# Altium schematic symbol library Switches.SchLib: 10 symbols
Pins are listed as number, name and electrical type; pins without a type are passive.

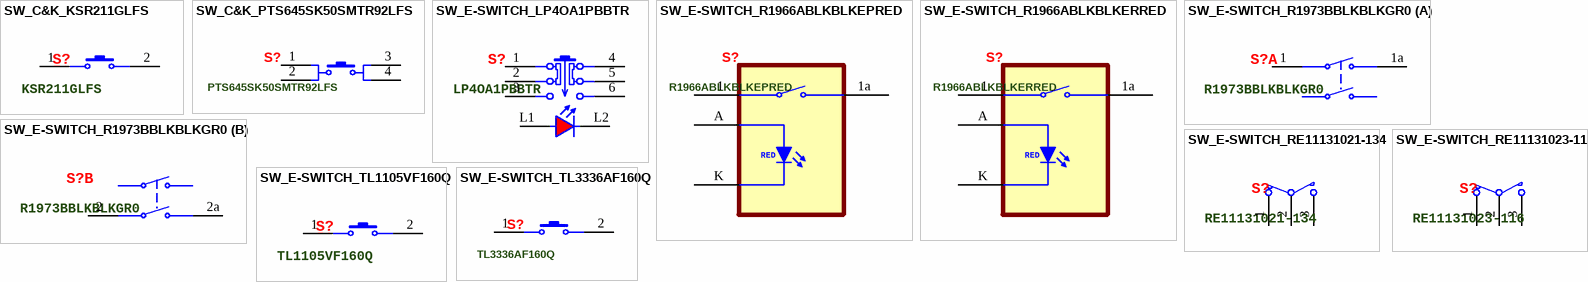
[diagram p0: symbols SW_C&K_KSR211GLFS to SW_E-SWITCH_TL3336AF160Q]

## SW_C&K_KSR211GLFS
designator S?, comment KSR211GLFS
Tactile Switch SPST-NO Top Actuated Surface Mount; Manufacturer: ITT C&K; Mechanical Life: 100000Cycles; Operating Force: 180gf; Throw Configuration: SPST; Voltage Rating (DC): 32V; Current Rating: 50mA; Illumination Type: Non-Illuminated; Switch Travel: 0.25mm; Switch Function: Off-Mom; Actuator Type: Standard; Actuator Length: 0.75mm; Manufacturer Part Number: KSR211GLFS; Category: Tactile Switches; Mounting Type: Surface Mount; Min Operating Temperature: -40°C; Max Operating Temperature: 85°C; Termination: Gull Wing; Orientation: Straight; RoHS Compliant: Yes; ComponentLink1Description: Datasheet; ComponentLink1URL: https://www.ckswitches.com/media/1466/ksr.pdf; Supplier 1: Digi-Key; Supplier Part Number 1: 401-1702-1-ND; Supplier 2: Mouser; Supplier Part Number 2: 611-KSR211GLFS; Actuator Orientation: Top
footprint C&K_KSR2xxGLF (Tactile Switch SPST-NO Top Actuated Surface Mount)
simulation model SPST_Switch (Model Description)
pins: 1, 2

## SW_C&K_PTS645SK50SMTR92LFS
designator S?, comment PTS645SK50SMTR92LFS
Tactile Switch SPST-NO Top Actuated Surface Mount; Manufacturer: ITT C&K; Mechanical Life: 100000Cycles; Operating Force: 260gf; Throw Configuration: SPST; Current Rating: 50mA; Voltage Rating (DC): 12V; Illumination Type: Non-Illuminated; Switch Function: Off-Mom; Actuator Type: Standard; Actuator Length: 1.55mm; Manufacturer Part Number: PTS645SK50SMTR92LFS; Category: Tactile Switches; Color: Red; Min Operating Temperature: -20°C; Max Operating Temperature: 60°C; Termination: Gull Wing; Orientation: Straight; RoHS Compliant: Yes; ComponentLink1Description: Datasheet; ComponentLink1URL: https://www.ckswitches.com/media/1471/pts645.pdf; Supplier 1: Digi-Key; Supplier Part Number 1: CKN9087CT-ND; Supplier 2: Mouser; Supplier Part Number 2: 611-PTS645SK50SMTR92; Mounting Type: Surface Mount; Actuator Orientation: Top
footprint C&K_PTS645SK50SMTR92LFS (Tactile Switch SPST-NO Top Actuated Surface Mount)
simulation model SPST_Switch (Model Description)
pins: 1, 2, 3, 4

## SW_E-SWITCH_LP4OA1PBBTR
designator S?, comment LP4OA1PBBTR
Pushbutton Switch DPDT Standard, Illuminated Through Hole; Manufacturer: E-Switch; Mechanical Life: 50000Cycles; Current Rating: 100mA; Illumination Color: Red; Voltage Rating (DC): 30V; Illumination Type: LED,Illuminated; Switch Function: On-Mom; Actuator Type: Round, Button; Actuator Length: 1.9mm; Actuator Orientation: Top; Operating Force: 260gf; Manufacturer Part Number: LP4OA1PBBTR; Category: Pushbutton Switches; Min Operating Temperature: -20°C; Max Operating Temperature: 70°C; Throw Configuration: DPDT; Termination: PC Pin; Orientation: Straight; RoHS Compliant: Yes; ComponentLink1URL: https://www.digikey.com/htmldatasheets/production/736035/0/0/1/lp4oa1pbbtr-drawing.pdf; ComponentLink1Description: Datasheet; Mounting Type: Through Hole; Supplier 1: Digi-Key; Supplier 2: Mouser; Supplier Part Number 1: EG4645-ND; Supplier Part Number 2: 612-LP4OA1PBBTR
footprint E-SWITCH_LP4OA1PBBTR (E-Switch LP4OA1PBBTR)
simulation model DPDT_Switch (Model Description)
simulation model WURTH_150060RS75000 (Model Description)
pins: 1, 2, 3, 4, 5, 6, L1 A, L2 K

## SW_E-SWITCH_R1966ABLKBLKEPRED
designator S?, comment R1966ABLKBLKEPRED
Rocker Switch SPST 15A (AC) 125 V Panel Mount, Snap-In; Manufacturer: E-Switch; Mechanical Life: 30000Cycles; Illumination Type: LED,Illuminated; Switch Function: On-Off; Electrical Life: 10000Cycles; Voltage Rating (AC): 125V; Illumination Color: Red; Actuator Orientation: Top; Manufacturer Part Number: R1966ABLKBLKEPRED; Category: Rocker Switches; Mounting Type: Panel,Snap in; Min Operating Temperature: -30°C; Max Operating Temperature: 65°C; Current Rating: 15A; Throw Configuration: SPST; Termination: PC Pin; ComponentLink1Description: Datasheet; ComponentLink1URL: https://sten-eswitch-13110800-production.s3.amazonaws.com/system/asset/product_line/data_sheet/74/R1966.pdf; Supplier 1: Digi-Key; Supplier Part Number 1: R1966ABLKBLKEPRED-ND; Supplier 2: Mouser; Supplier Part Number 2: 612-R1966ABLKBLKEPRE; RoHS Compliant: Yes; Actuator Type: Rocker; Orientation: Straight
footprint E-SWITCH_R1966ABLKBLKEPRED (Rocker Switch SPST Illuminated E-Switch R1966ABLKBLKEPRED)
simulation model SPST_Switch (Model Description)
simulation model WURTH_150060RS75000 (Model Description)
pins: 1 (power), 1a (power), A Anode, K Cathode
text: RED

## SW_E-SWITCH_R1966ABLKBLKERRED
designator S?, comment R1966ABLKBLKERRED
Rocker Switch SPST 15A (AC) 125 V Panel Mount, Snap-In, Right Angle; Manufacturer: E-Switch; Mechanical Life: 30000Cycles; Voltage Rating (AC): 125V; Electrical Life: 10000Cycles; Illumination Type: LED,Illuminated; Switch Function: On-Off; Illumination Color: Red; Actuator Orientation: Side; Manufacturer Part Number: R1966ABLKBLKERRED; Category: Rocker Switches; Mounting Type: Panel,Snap in; Min Operating Temperature: -30°C; Max Operating Temperature: 65°C; Current Rating: 15A; Termination: PC Pin; Throw Configuration: SPST; Actuator Type: Rocker; Orientation: Right Angle; ComponentLink1Description: Datasheet; ComponentLink1URL: https://sten-eswitch-13110800-production.s3.amazonaws.com/system/asset/product_line/data_sheet/74/R1966.pdf; Supplier 1: Digi-Key; Supplier Part Number 1: EG2577-ND; RoHS Compliant: Yes
footprint E-SWITCH_R1966ABLKBLKERRED (Rocker Switch SPST Illuminated E-Switch R1966ABLKBLKERRED)
simulation model WURTH_150060RS75000 (Model Description)
simulation model SPST_Switch (Model Description)
pins: 1 (power), 1a (power), A Anode, K Cathode
text: RED

## SW_E-SWITCH_R1973BBLKBLKGR0
designator S?, comment R1973BBLKBLKGR0
Rocker Switch DPST 9A (AC) 125 V Panel Mount, Snap-In, Right Angle; Manufacturer: E-Switch; Mechanical Life: 30000Cycles; Voltage Rating (AC): 125V; Electrical Life: 10000Cycles; Switch Function: On-Off; Illumination Type: Illuminated; Actuator Orientation: Top; Manufacturer Part Number: R1973BBLKBLKGR0; Category: Rocker Switches; Mounting Type: Panel,Snap in; Min Operating Temperature: -30°C; Max Operating Temperature: 55°C; Current Rating: 9A; Termination: PC Pin; Throw Configuration: DPST; Actuator Type: Rocker; RoHS Compliant: Yes; ComponentLink1URL: https://sten-eswitch-13110800-production.s3.amazonaws.com/system/asset/product_line/data_sheet/75/R1973.pdf; ComponentLink1Description: Datasheet; Supplier 1: Digi-Key; Supplier Part Number 1: R1973BBLKBLKGR0-ND; Orientation: Straight
footprint E-SWITCH_R1973BBLKBLKGR0 (Rocker Switch DPST E-Switch R1973BBLKBLKGR0)
simulation model DPST_Switch (Model Description)
part A pins: 1 (power), 1a (power)
part B pins: 2 (power), 2a (power)

## SW_E-SWITCH_RE11131021-134
designator S?, comment RE11131021-134
Rocker Switch SPST 10A (AC) 125 V Panel Mount, Snap-In; Manufacturer: E-Switch; Voltage Rating (AC): 125V; Electrical Life: 10000Cycles; Switch Function: On-Off; Actuator Orientation: Top; Illumination Color: Green; Illumination Type: Neon; Illumination Voltage: 125VAC; Manufacturer Part Number: RE11131021-134; Category: Rocker Switches; Min Operating Temperature: -20°C; Max Operating Temperature: 105°C; Current Rating: 10A; Termination: Quick Connect; Throw Configuration: SPST; RoHS Compliant: Yes; ComponentLink1URL: https://www.digikey.com/htmldatasheets/production/610996/0/0/1/re111c1021-116.pdf; ComponentLink1Description: Datasheet; Actuator Type: Rocker; Mounting Type: Panel,Snap in; Orientation: Straight; Supplier 1: Digi-Key; Supplier Part Number 1: RE11131021-134-ND; Supplier 2: Mouser; Supplier Part Number 2: 612-RE11131021-134
footprint E-SWITCH_RE1XXX (Rocker Switch SPST 10A (AC) 125 V Panel Mount, Snap-In)
simulation model SPST_Switch (Model Description)
pins: 1, 2, 3

## SW_E-SWITCH_RE11131023-116
designator S?, comment RE11131023-116
Rocker Switch SPST 10A (AC) 125 V Panel Mount, Snap-In; Manufacturer: E-Switch; Voltage Rating (AC): 125V; Electrical Life: 10000Cycles; Illumination Type: Neon; Switch Function: On-Off; Actuator Orientation: Top; Illumination Color: Red; Illumination Voltage: 12VDC; Manufacturer Part Number: RE11131023-116; Category: Rocker Switches; Min Operating Temperature: -20°C; Max Operating Temperature: 105°C; Current Rating: 10A; Termination: Quick Connect; Throw Configuration: SPST; RoHS Compliant: Yes; ComponentLink1URL: https://www.digikey.com/htmldatasheets/production/610996/0/0/1/re111c1021-116.pdf; ComponentLink1Description: Datasheet; Actuator Type: Rocker; Mounting Type: Panel,Snap in; Orientation: Straight; Supplier 1: Digi-Key; Supplier Part Number 1: RE11131023-116-ND
footprint E-SWITCH_RE1XXX (Rocker Switch SPST 10A (AC) 125 V Panel Mount, Snap-In)
simulation model SPST_Switch (Model Description)
pins: 1, 2, 3

## SW_E-SWITCH_TL1105VF160Q
designator S?, comment TL1105VF160Q
Tactile Switch SPST-NO Side Actuated Through Hole, Right Angle; Manufacturer: E-Switch; Mechanical Life: 100000Cycles; Operating Force: 160gf; Throw Configuration: SPST; Illumination Type: Non-Illuminated; Switch Travel: 0.25mm; Switch Function: Off-Mom; Actuator Type: Standard; Voltage Rating (DC): 12V; Current Rating: 50mA; Actuator Length: 1.3mm; Manufacturer Part Number: TL1105VF160Q; Category: Tactile Switches; Min Operating Temperature: -20°C; Max Operating Temperature: 70°C; Termination: PC Pin; Electrical Life: 100000Cycles; Orientation: Right Angle; RoHS Compliant: Yes; ComponentLink1URL: https://eswitch.wpengine.com/wp-content/uploads/2022/06/TL1100.pdf; ComponentLink1Description: Datasheet; Actuator Orientation: Side; Mounting Type: Through Hole, Right Angle; Supplier 1: Digi-Key; Supplier Part Number 1: EG2508-ND; Supplier 2: Mouser; Supplier Part Number 2: 612-TL1105VF
footprint E-SWITCH_TL1105VF160Q (Tactile Switch SPST-NO Side Actuated TH, Right Angle)
simulation model SPST_Switch (Model Description)
pins: 1, 2

## SW_E-SWITCH_TL3336AF160Q
designator S?, comment TL3336AF160Q
Tactile Switch SPST-NO Side Actuated Surface Mount, Right Angle; Manufacturer: E-Switch; Switch Function: Off-Mom; Actuator Type: Standard; Operating Force: 160gf; Switch Travel: 0.35mm; Mechanical Life: 100000 Cycles; Current Rating: 50mA; Illumination Type: Non-Illuminated; Throw Configuration: SPST; Actuator Length: 1.90mm; Manufacturer Part Number: TL3336AF160Q; Category: Tactile Switches; Mounting Type: Surface Mount, Right Angle; Actuator Orientation: Side; Min Operating Temperature: -20°C; Max Operating Temperature: 70°C; RoHS Compliant: Yes; Supplier 1: Digi-Key; Supplier Part Number 1: 141-TL3336AF160QCT-ND; Supplier 2: Mouser; Supplier Part Number 2: 612-TL3336AF160Q; ComponentLink1Description: Datasheet; ComponentLink1URL: https://media.digikey.com/pdf/Data%20Sheets/E-Switch%20PDFs/TL3336.pdf; Termination: Gull Wing; Orientation: Right Angle
footprint E-SWITCH_TL3336AF160Q (Tactile Switch SPST-NO Side Actuated Surface Mount, Right Angle)
simulation model SPST_Switch (Model Description)
pins: 1, 2